# Altium schematic symbol library GCM1555C1H8R0DA16D.SchLib: 1 symbol
Pins are listed as number, name and electrical type; pins without a type are passive.

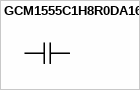
[diagram p0: symbol GCM1555C1H8R0DA16D]

## GCM1555C1H8R0DA16D
designator ?
CAP CER 8PF 50V C0G/NP0 0402
pins: 1, 2 1